# Altium footprint library ZYGD_TAS.PcbLib: 39 footprints (part 1 of 3)
Each footprint in its own frame and in the unit in brackets; x right, y up, seen from the top. Pads: shape width x height; smd on the part's side, far side on the other; paste and mask are expansions set on the pad; w line width, h text height; cw(c..) or ccw(c..) is an arc to the next point about the centre after c.
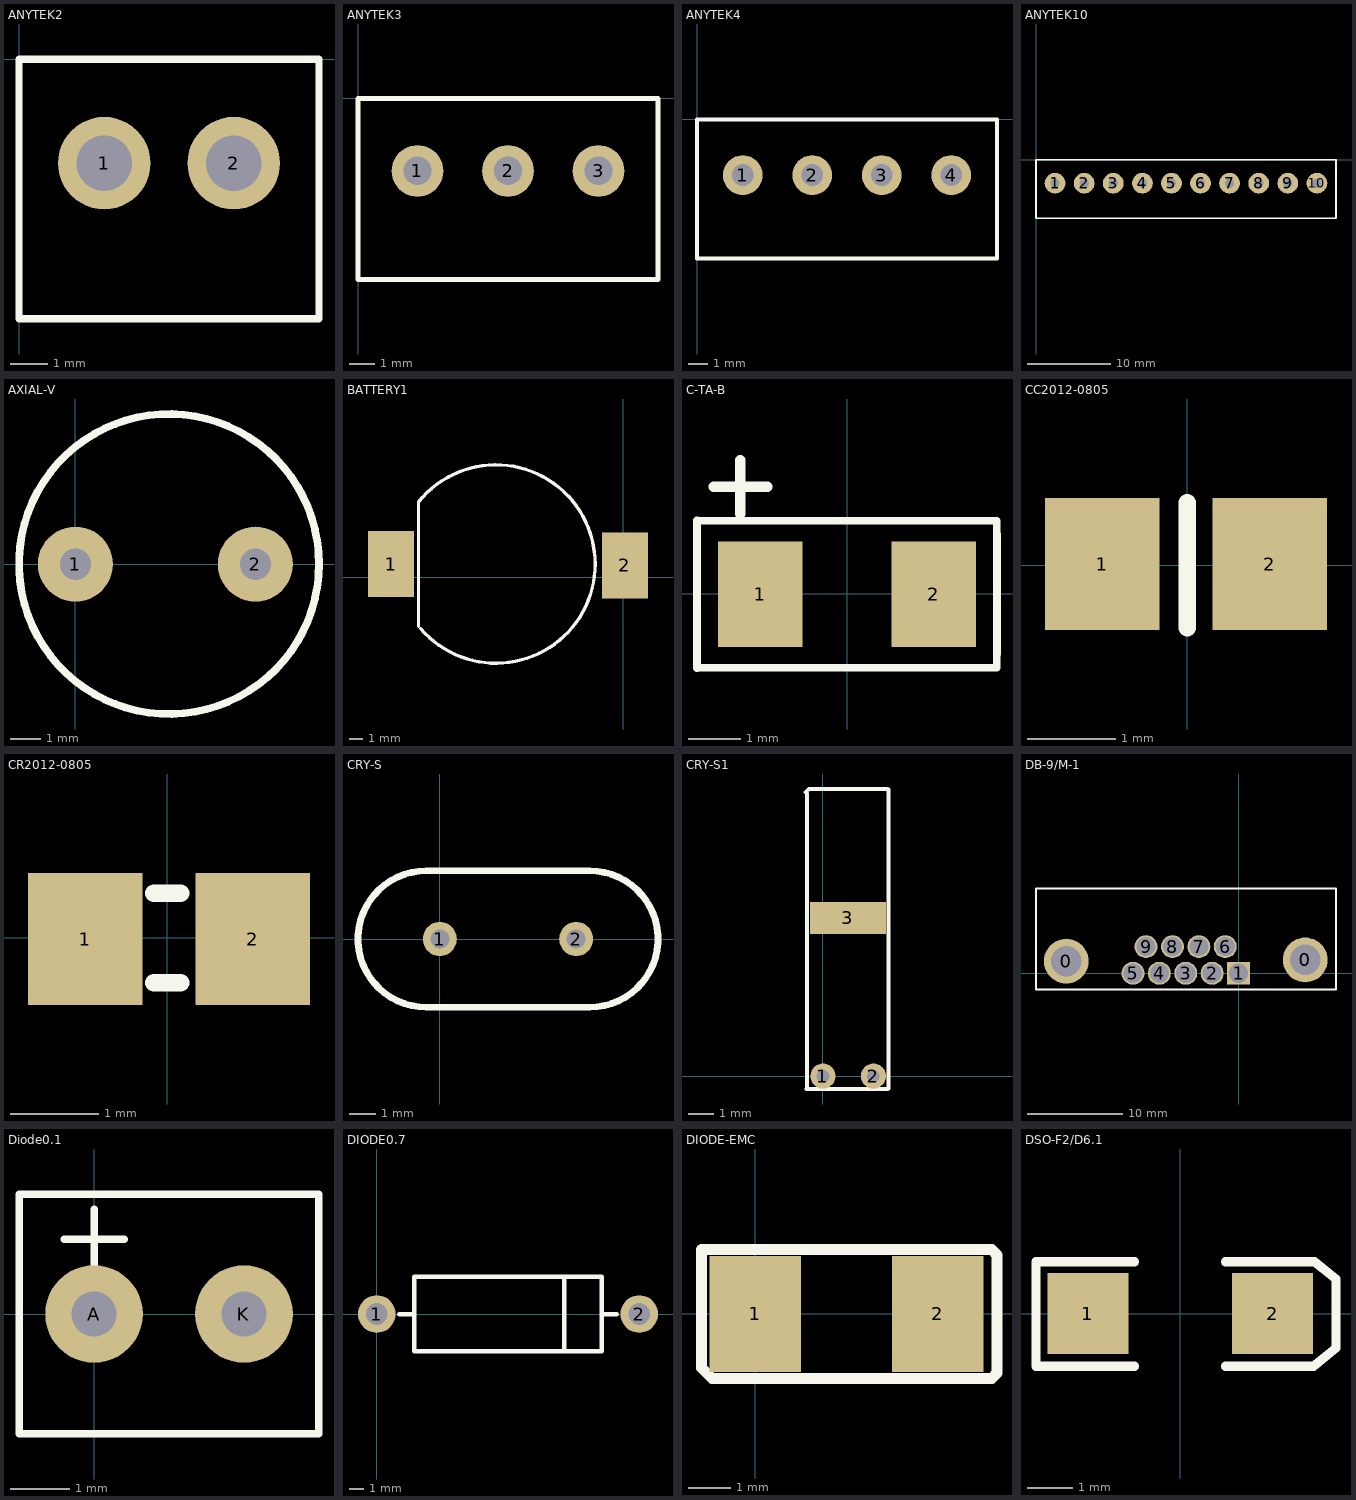
[diagram p0: the footprints below, top view; thin cyan lines are the x and y axes]

## ANYTEK2 [mm]
pads (2):
  round 2.5 hole 1.5: 1(2.3,-2.8) 2(5.8,-2.8)
Top Overlay:
  lines w0.2: 0,-7 8.1,-7 8.1,0 0,0 0,-7

## ANYTEK3 [mm]
pads (3):
  round 2 hole 1.1: 1(2.292,-2.8) 2(5.792,-2.8) 3(9.292,-2.8)
Top Overlay:
  lines w0.2: -0.008,-7 11.592,-7 11.592,0 -0.008,0 -0.008,-7

## ANYTEK4 [mm]
pads (4):
  round 2 hole 1.1: 1(2.288,-2.8) 2(5.788,-2.8) 3(9.288,-2.8) 4(12.788,-2.8)
Top Overlay:
  lines w0.2: -0.012,-7 15.088,-7 15.088,0 -0.012,0 -0.012,-7

## ANYTEK10 [mm]
pads (10):
  round 2.5 hole 1.1: 1(2.3,-2.8) 2(5.8,-2.8) 3(9.3,-2.8) 4(12.8,-2.8) 5(16.3,-2.8) 6(19.8,-2.8) 7(23.3,-2.8) 8(26.8,-2.8) 9(30.3,-2.8) 10(33.8,-2.8)
Top Overlay:
  lines w0.2: 0,-7 36.1,-7 36.1,0 0,0 0,-7

## AXIAL-V [mm]
pads (2):
  round 2.5 hole 1.041: 1(0.008,-0.005) 2(6.008,-0.005)
Top Overlay:
  circle w0.254: c3.128,0 r5

## BATTERY1 [mm]
pads (2):
  rect 3.5x5 smd: 1(-17.556,0.979) 2(0.124,0.889)
Top Overlay:
  lines w0.254: -15.483,-3.73 -15.483,5.674 cw(c-9.626,0.989) -2.126,0.989 cw(c-9.626,0.989) -15.321,-3.892

## C-TA-B [mm]
pads (2):
  rect 1.6x2 smd: 1(-1.657,-0.01) 2(1.643,-0.01)
Top Overlay:
  lines w0.15: -2.857,-1.41 -2.857,-0.01 -2.857,1.39 2.838,1.387 2.843,0.924 2.843,-0.943 2.838,-1.407 -2.857,-1.41
  lines w0.2: -2.54,2.032 -1.524,2.032 ; -2.032,1.524 -2.032,2.54

## CC2012-0805 [mm]
pads (2):
  rect 1.3x1.5 smd: 1(-0.963,0.016) 2(0.937,0.016)
Top Overlay:
  lines w0.2: 0,-0.708 0,0.708

## CR2012-0805 [mm]
pads (2):
  rect 1.3x1.5 smd: 1(-0.93,-0.012) 2(0.97,-0.012)
Top Overlay:
  lines w0.2: -0.15,-0.508 0.15,-0.508 ; -0.15,0.508 0.15,0.508 ; -0.15,0.508 0.15,0.508 ; -0.15,0.508 0.15,0.508

## CRY-S [mil]
pads (2):
  round 50 hole 28: 1(0,0) 2(200,0)
Top Overlay:
  lines w10: -20,-100 cw(c-20,0) -20,100 80,100 220,100 cw(c220,0) 220,-100 0,-100 -20,-100

## CRY-S1 [mm]
pads (3):
  round 1 hole 0.5: 1(0,0) 2(2,0)
  rect 3x1.27 smd: 3(0.991,6.274)
Top Overlay:
  lines w0.152: -0.686,11.252 -0.559,11.379 2.565,11.379 2.591,11.354 2.591,-0.483 2.565,-0.508 -0.66,-0.508 -0.635,-0.483 -0.635,11.201 -0.686,11.252

## DB-9/M-1 [mm]
pads (11):
  round 4.7 hole 3.2: 0(-18.059,1.27) 0(6.985,1.397)
  rect 2.4x2.4 hole 2: 1(0,0)
  round 2.4 hole 2: 2(-2.769,0) 3(-5.537,0) 4(-8.306,0) 5(-11.074,0) 6(-1.397,2.794) 7(-4.166,2.794) 8(-6.934,2.794) 9(-9.703,2.794)
Top Overlay:
  lines w0.203: -21.234,7.874 -21.234,8.89 10.212,8.89 10.212,-1.703 -21.234,-1.703 -21.234,8.766

## Diode0.1 [mil]
pads (2):
  round 65 hole 30: A(0,0) K(100,0)
Top Overlay:
  lines w5: -20,50 20,50 ; 0,30 0,70 ; -50,-80 150,-80 150,0 150,80 -50,80 -50,-80

## DIODE0.7 [mil]
pads (2):
  round 100 hole 58: 1(0,0) 2(700,0)
Top Overlay:
  lines w12: 60,0 100,0 ; 500,-100 500,100 ; 600,0 640,0 ; 100,-100 100,100 600,100 600,-100 100,-100

## DIODE-EMC [mm]
pads (2):
  rect 2.16x2.75 smd: 1(0,0) 2(4.318,0)
Top Overlay:
  lines w0.254: -1.27,-1.27 -1.016,-1.524 5.588,-1.524 5.715,-1.397 5.715,1.397 5.588,1.524 -1.27,1.524 -1.27,-1.27

## DSO-F2/D6.1 [mil]
pads (2):
  rect 70x70 smd: 1(-80,0) 2(80,0)
Top Overlay:
  lines w7.87: -39.55,-45.69 -125,-45.69 -125,44.87 -39.55,44.87 ; 39.19,-45.69 115.39,-45.69 135,-30 135,30 116.42,44.87 39.19,44.87